# Altium schematic symbol library Optocouplers.SchLib: 7 symbols
Pins are listed as number, name and electrical type; pins without a type are passive.

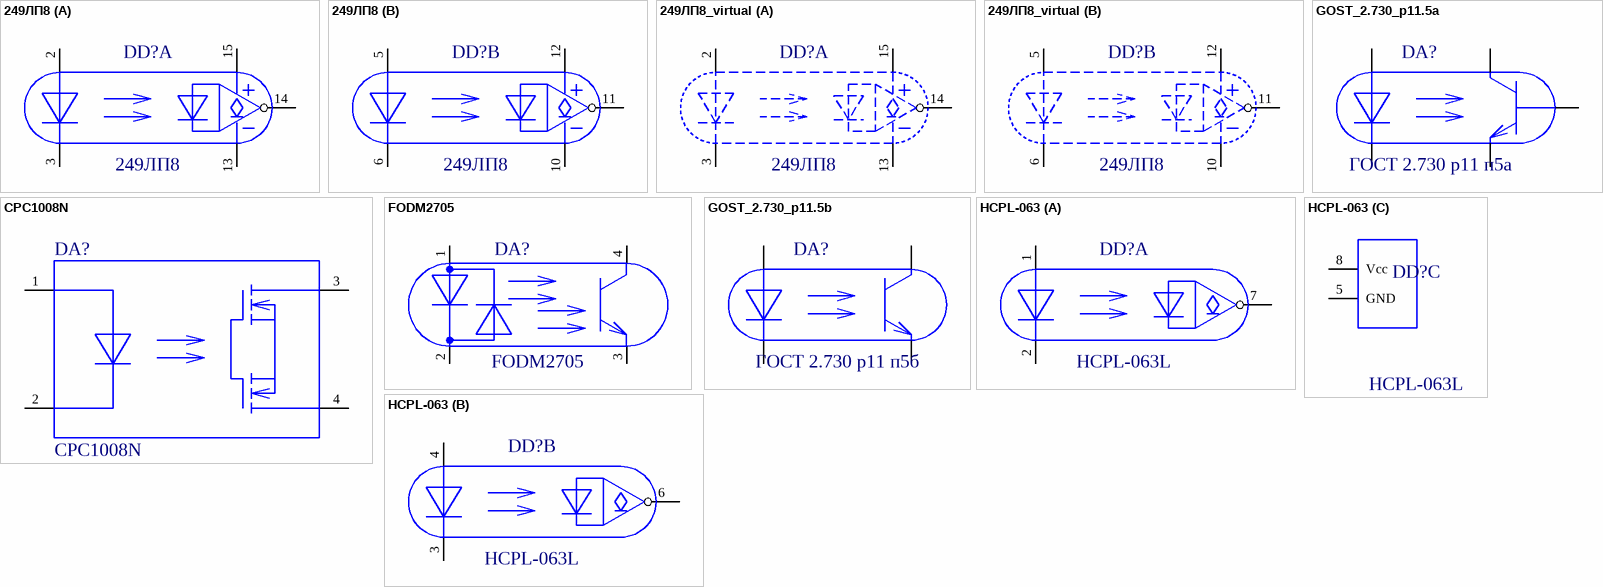
[diagram p0: symbols 249ЛП8 to HCPL-063]

## 249ЛП8
designator DD?
ValueSch: 249ЛП8
part A pins: 2 Anode1, 3 Cathode1, 13 GND (power), 14 Out1 (oc), 15 +Vcc (power)
part B pins: 5 Anode2, 6 Cathode2, 10 GND (power), 11 Out2 (oc), 12 +Vcc (power)

## 249ЛП8_virtual
designator DD?, comment 249ЛП8  (graphical)
ValueSch: 249ЛП8
part A pins: 2 Anode1, 3 Cathode1, 13 GND (power), 14 Out1 (oc), 15 +Vcc (power)
part B pins: 5 Anode2, 6 Cathode2, 10 GND (power), 11 Out2 (oc), 12 +Vcc (power)

## CPC1008N
designator DA?
OptoMOS Relay; ValueSch: CPC1008N
pins: 1 +Control "Анод управляющего светодиода", 2 -Control "Катод управляющего светодиода", 3 Load "Исполнительный контакт оптореле", 4 Load "Исполнительный контакт оптореле"

## FODM2705
designator DA?
Оптопара транзисторная; ValueSch: FODM2705
pins: 1 Anode1, 2 Cathode1, 3 E, 4 C

## GOST_2.730_p11.5a
designator DA?, comment ГОСТ 2.730 р11 п5а
Оптопара транзисторная по ГОСТ 2.730 р.11 п.5а; ValueSch: ГОСТ 2.730 р11 п5а
pins: A Anode1, B, C, E, K Cathode1

## GOST_2.730_p11.5b
designator DA?, comment ГОСТ 2.730 р11 п5б
Оптопара транзисторная по ГОСТ 2.730 р.11 п.5б; ValueSch: ГОСТ 2.730 р11 п5б
pins: A Anode1, C, E, K Cathode1

## HCPL-063
designator DD?, comment HCPL-063L
15 MBd LVTTL/LVCMOS 3.3V Optocouplers; ValueSch: HCPL-063L
part A pins: 1 Anode1, 2 Cathode1, 7 Out1 (oc)
part B pins: 3 Cathode2, 4 Anode2, 6 Out2 (oc)
part C pins: 5 GND (power), 8 Vcc (power)